# Altium footprint library SOTFL35P100X50-3N.PcbLib: 1 footprints
Each footprint in its own frame and in the unit in brackets; x right, y up, seen from the top. Pads: shape width x height; smd on the part's side, far side on the other; paste and mask are expansions set on the pad; w line width, h text height; cw(c..) or ccw(c..) is an arc to the next point about the centre after c.
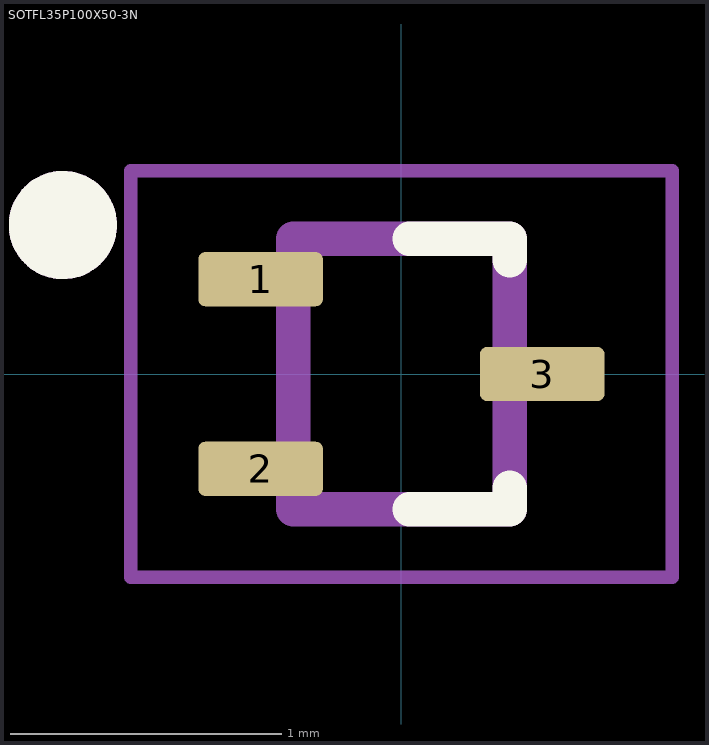
[diagram p0: the footprint, top view; thin cyan lines are the x and y axes]

## SOTFL35P100X50-3N [mm]
pads (3):
  rrect25% 0.46x0.2 smd: 1(-0.52,0.35) 2(-0.52,-0.35) 3(0.52,0)
Top Overlay:
  circle w0.2: c-1.25,0.55 r0.1
  lines w0.127: 0.03,-0.5 0.4,-0.5 0.4,-0.42 ; 0.03,0.5 0.4,0.5 0.4,0.42
Mechanical 13:
  circle w0.2: c-1.25,0.55 r0.1
  lines w0.127: -0.4,-0.5 -0.4,0.5 0.4,0.5 0.4,-0.5 -0.4,-0.5
Mechanical 15:
  lines w0.05: -1,-0.75 -1,0.75 1,0.75 1,-0.75 -1,-0.75
3D body "TPD2EUSB30ADRTR.step": height 0.5, standoff 0, extent -0.5,-0.5 0.5,0.5